# EAGLE library part AO4807 (library caracas)
30V Dual P-Channel MOSFET The AO4807 uses advanced trench technology to provide excellent RDS(ON), and ultra-low low gate charge. This device is suitable for use as a load switch or in PWM applications.<7p>
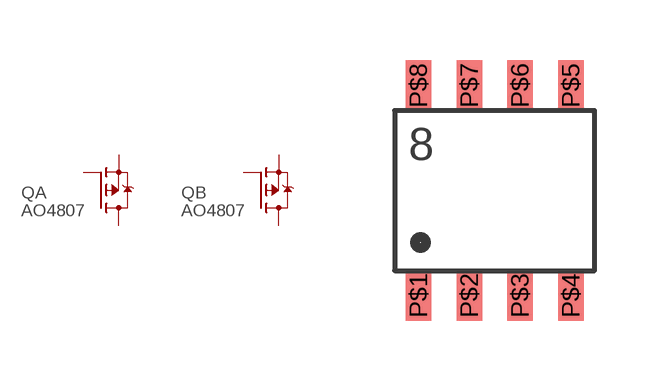
[diagram p2: symbol with the pads of 8-SOIC; footprint 8-SOIC]

Designator prefix Q; gates A=MOSFET-P B=MOSFET-P

## AO4807  [8-SOIC]
P$1  B:S  pas
P$2  B:G  pas
P$3  A:S  pas
P$4  A:G  pas
P$5  A:D  pas
P$6  A:D  pas
P$7  B:D  pas
P$8  B:D  pas

## Footprint 8-SOIC (pad centres in mm)
smd 0.635 x 1.27: P$1 0.6,-0.62; P$2 1.87,-0.62; P$3 3.14,-0.62; P$4 4.41,-0.62; P$5 4.41,4.63; P$6 3.14,4.63; P$7 1.87,4.63; P$8 0.6,4.63